# EAGLE library part MCP42XX (library Simplex-ICs)
MCP42xx dual digital potentiometer
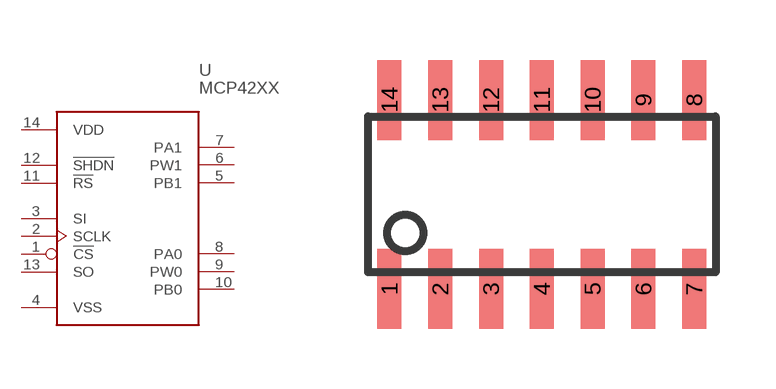
[diagram p16: symbol with the pads of SO-14; footprint SO-14]

Designator prefix -

## MCP42XX  [SO-14]
1  !CS  in
2  SCLK  in
3  SI  in
4  VSS
5  PB1
6  PW1
7  PA1
8  PA0
9  PW0
10  PB0
11  !RS
12  !SHDN
13  SO
14  VDD

## Footprint SO-14 (pad centres in mm)
SO-14 14-lead plastic small outline 3.90x8.69mm
smd 0.6 x 2: 1 0,0; 2 1.27,0; 3 2.54,0; 4 3.81,0; 5 5.08,0; 6 6.35,0; 7 7.62,0; 8 7.62,4.73; 9 6.35,4.73; 10 5.08,4.73; 11 3.81,4.73; 12 2.54,4.73; 13 1.27,4.73; 14 0,4.73